# Altium footprint library Safety_Lock.PcbLib: 46 footprints (part 2 of 3)
Each footprint in its own frame and in the unit in brackets; x right, y up, seen from the top. Pads: shape width x height; smd on the part's side, far side on the other; paste and mask are expansions set on the pad; w line width, h text height; cw(c..) or ccw(c..) is an arc to the next point about the centre after c.
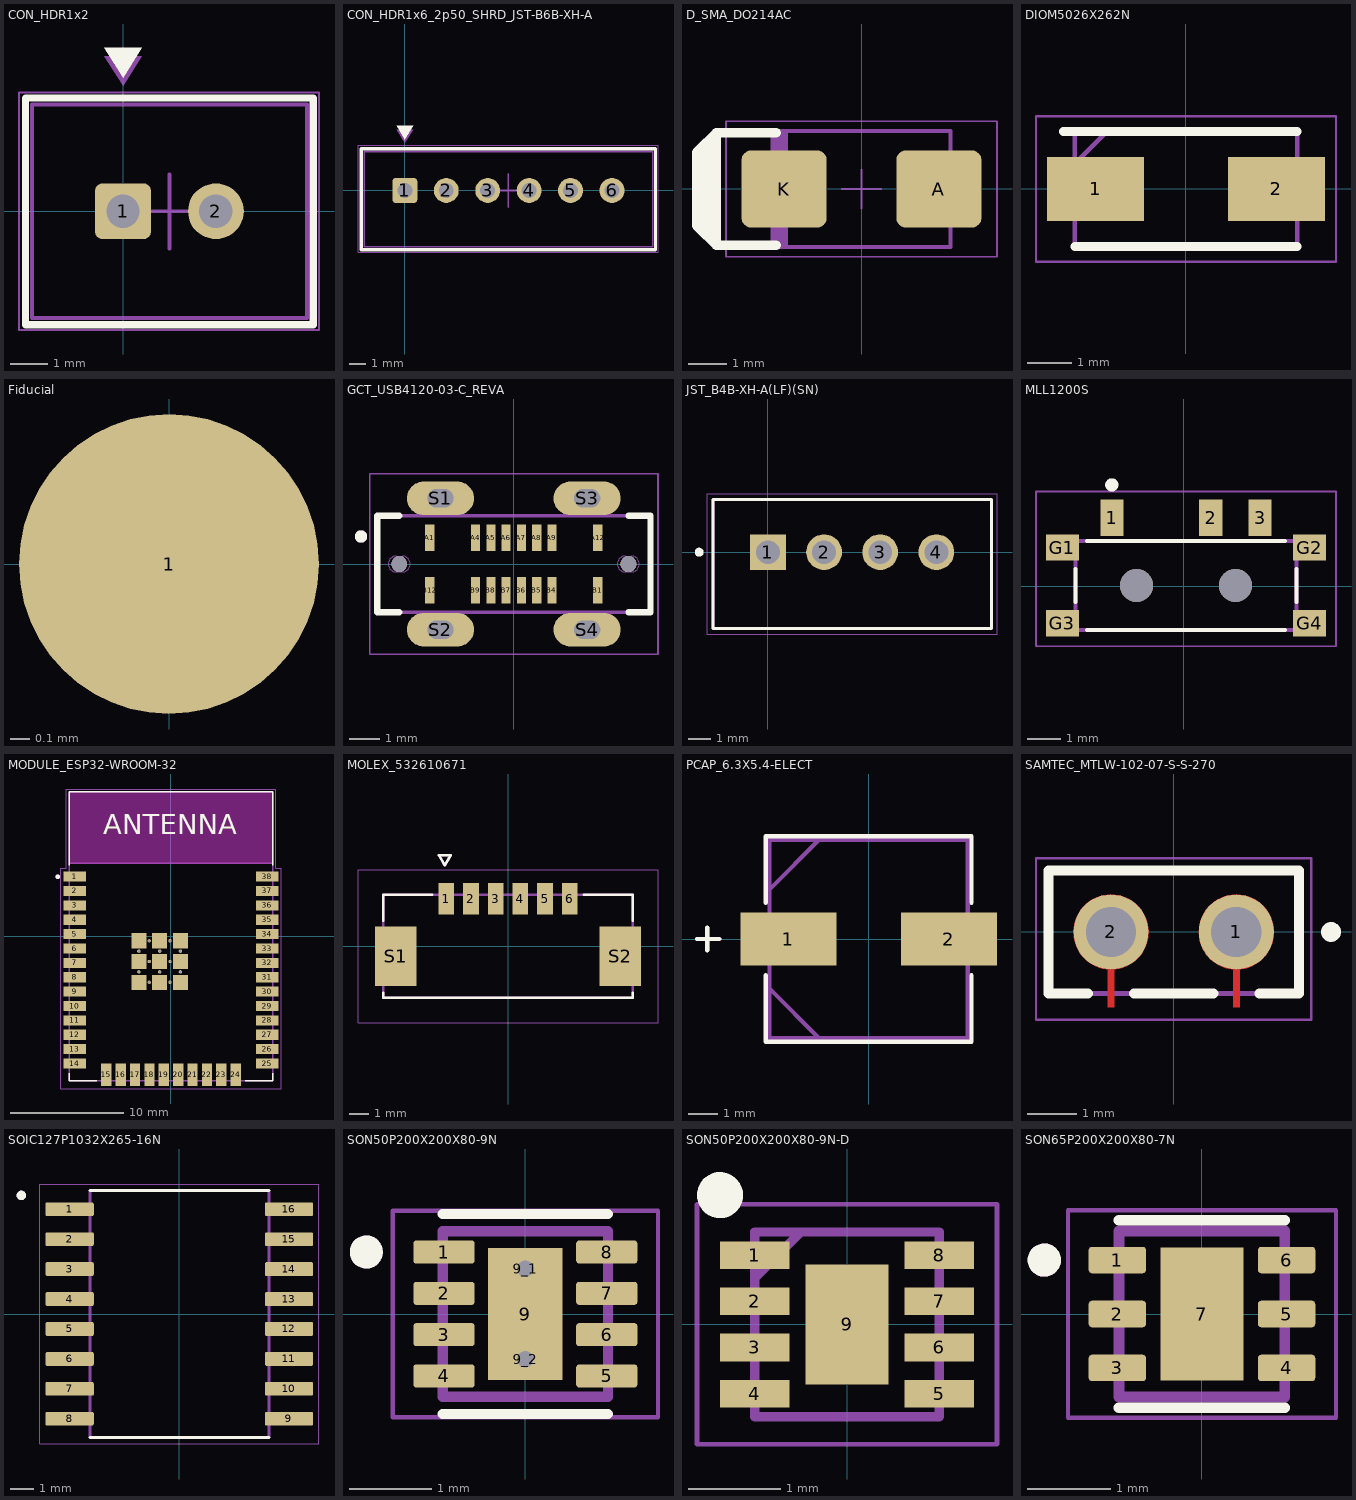
[diagram p1: the footprints below, top view; thin cyan lines are the x and y axes]

## CON_HDR1x2 [mm] "Connector 2-Way 2.50mm Pitch Right Angle Shrouded JST S2B-XH-A"
height 7
pads (2):
  rrect25% 1.5x1.5 / inner round 1.5 / far side rrect25% 1.5x1.5 hole 0.9: 1(0,0)
  round 1.5 hole 0.9: 2(2.5,0)
Top Overlay:
  region: 0,3.6 0.5,4.4 -0.5,4.4
  lines w0.2: -2.625,-3.05 5.125,-3.05 5.125,3.05 -2.625,3.05 -2.625,-3.05
Top Courtyard:
  lines w0.05: -2.8,-3.2 5.275,-3.2 5.275,3.2 -2.8,3.2 -2.8,-3.2
  lines w0.1: 0.25,0 1.25,0 ; 1.25,-1 1.25,0 ; 1.25,1 1.25,0 ; 2.25,0 1.25,0
Top Assembly:
  region: 0,3.375 0.5,4.175 -0.5,4.175
  lines w0.1: -2.45,-2.2 -2.45,2.875 4.95,2.875 4.95,-2.875 -2.45,-2.875 -2.45,0.4
3D body "User Library-JST B2B-XH-A.STEP": height 7, standoff -3.4, extent -2.45,-2.875 4.95,2.875

## CON_HDR1x6_2p50_SHRD_JST-B6B-XH-A [mm] "Connector 6-Way 2.50mm Pitch Right Angle Shrouded JST-B6B-XH-A"
height 7
pads (6):
  rrect25% 1.5x1.5 / inner round 1.5 / far side rrect25% 1.5x1.5 hole 0.9: 1(0,0)
  round 1.5 hole 0.9: 2(2.5,0) 3(5,0) 4(7.5,0) 5(10,0) 6(12.5,0)
Top Overlay:
  region: 0,3.1 0.5,3.9 -0.5,3.9
  lines w0.2: -2.625,-3.575 15.125,-3.575 15.125,2.525 -2.625,2.525 -2.625,-3.575
Top Courtyard:
  lines w0.05: -2.825,-3.725 15.275,-3.725 15.275,2.725 -2.825,2.725 -2.825,-3.725
  lines w0.1: 5.25,0 6.25,0 ; 6.25,-1 6.25,0 ; 6.25,1 6.25,0 ; 7.25,0 6.25,0
Top Assembly:
  region: 0,2.875 0.5,3.675 -0.5,3.675
  lines w0.1: -2.45,-2.2 -2.45,2.35 14.951,2.35 14.951,-3.4 -2.45,-3.4 -2.45,0.4
3D body "B6B-XH-A.STEP": height 7, standoff -3.4, extent -2.45,-3.375 14.95,2.375

## D_SMA_DO214AC [mm] "Molded Diode, 2-Leads, Body 4.3x2.6mm, IPC Medium Density"
height 2.2
pads (2):
  rrect25% 2.2x2 smd: A(2,0) K(-2,0)
Top Overlay:
  lines w0.25: -4,-1.2 -4,1.2 ; -2.2,-1.45 -3.75,-1.45 ; -2.2,1.45 -3.75,1.45 ; -3.75,-1.45 -4.25,-0.95 -4.25,0.95 -3.75,1.45 ; -3.75,-1.45 -3.75,1.45
Top Courtyard:
  lines w0.05: -0.5,0 0.5,0 ; 0,-0.5 0,0.5 ; -3.5,-1.75 3.5,-1.75 3.5,1.75 -3.5,1.75 -3.5,-1.75
Top Assembly:
  region: -1.9,1.5 -2.3,1.5 -2.3,-1.5 -1.9,-1.5
  lines w0.1: -2.3,-1.5 -2.3,1.5 2.3,1.5 2.3,-1.5 -2.3,-1.5
3D body "D_SMA_DO214AC.step": height 2.6, standoff 0.03, extent -2.75,-1.4 2.75,1.4

## DIOM5026X262N [mm]
pads (2):
  rect 2.2x1.45 smd: 1(-2.05,0) 2(2.05,0)
Top Overlay:
  lines w0.2: -2.775,1.3 2.52,1.3 ; -2.52,-1.3 2.52,-1.3
Mechanical 13:
  lines w0.1: -2.52,0.575 -1.795,1.3 ; -2.52,-1.3 -2.52,1.3 2.52,1.3 2.52,-1.3 -2.52,-1.3
Mechanical 15:
  lines w0.05: -3.4,-1.65 -3.4,1.65 3.4,1.65 3.4,-1.65 -3.4,-1.65
3D body "SS54.stp": height 2.62, standoff 0, extent -2.52,-1.3 2.52,1.3

## Fiducial [mm]
pads (1):
  round 1.53 all layers, no hole mask+0.102: 1(0,0)

## GCT_USB4120-03-C_REVA [mm]
pads (22):
  rect 0.3x0.87 smd: A1(-2.75,0.865) A4(-1.25,0.865) A5(-0.75,0.865) A6(-0.25,0.865) A7(0.25,0.865) A8(0.75,0.865) A9(1.25,0.865) A12(2.75,0.865) B1(2.75,-0.865) B4(1.25,-0.865) B5(0.75,-0.865) B6(0.25,-0.865) B7(-0.25,-0.865) B8(-0.75,-0.865) B9(-1.25,-0.865) B12(-2.75,-0.865)
  oval 2.2x1.1 hole 0.6 slot 0.85 at 0 deg: S1(-2.4,2.15) S2(-2.4,-2.15) S3(2.4,2.15) S4(2.4,-2.15)
  round 0.52 hole 0.52 unplated: ""(-3.75,0) ""(3.75,0)
Top Overlay:
  circle w0.2: c-5,0.9 r0.1
  lines w0.2: -3.75,-1.58 -4.47,-1.58 -4.47,1.58 -3.75,1.58 ; 3.75,-1.58 4.47,-1.58 4.47,1.58 3.75,1.58
Mechanical 1:
  lines w0: -4.11,0 cw(c-3.85,0) -3.85,0.26 -3.65,0.26 cw(c-3.65,0) -3.39,0 cw(c-3.65,0) -3.65,-0.26 -3.85,-0.26 cw(c-3.85,0) -4.11,0 ; 3.39,0 cw(c3.65,0) 3.65,0.26 3.85,0.26 cw(c3.85,0) 4.11,0 cw(c3.85,0) 3.85,-0.26 3.65,-0.26 cw(c3.65,0) 3.39,0
Mechanical 13:
  circle w0.2: c-5,0.9 r0.1
  lines w0.1: -4.47,-1.58 -4.47,1.58 4.47,1.58 4.47,-1.58 -4.47,-1.58
Mechanical 15:
  lines w0.05: -4.72,-2.95 -4.72,2.95 4.72,2.95 4.72,-2.95 -4.72,-2.95
3D body "USB4120-03-C--3DModel-STEP-56544.STEP": height 6.5, standoff -0.95, extent -4.495,-2.286 4.445,2.314

## JST_B4B-XH-A(LF)(SN) [mm]
pads (4):
  rect 1.59x1.59 hole 1.06: 1(0,0)
  round 1.59 hole 1.06: 2(2.5,0) 3(5,0) 4(7.5,0)
Top Overlay:
  circle w0.2: c-3.06,0 r0.1
  lines w0.127: -2.45,-3.4 9.95,-3.4 9.95,2.35 -2.45,2.35 -2.45,-3.4
Mechanical 13:
  lines w0.127: -2.45,-3.4 9.95,-3.4 9.95,2.35 -2.45,2.35 -2.45,-3.4
Mechanical 15:
  lines w0.05: -2.7,-3.65 10.2,-3.65 10.2,2.6 -2.7,2.6 -2.7,-3.65
3D body "step_temp.STEP": height 7, standoff -3.4, extent -2.45,-3.4 9.95,2.35

## MLL1200S [mm]
pads (9):
  rect 0.7x1.1 smd: 1(-2.175,2.075) 2(0.825,2.075) 3(2.325,2.075)
  rect 1x0.8 smd: G1(-3.675,1.175) G2(3.825,1.175) G3(-3.675,-1.125) G4(3.825,-1.125)
  round 1 hole 1 unplated: ""(-1.425,0.025) ""(1.575,0.025)
Top Overlay:
  circle w0.2: c-2.175,3.075 r0.1
  lines w0.127: -3.275,-0.475 -3.275,0.525 ; -2.925,-1.325 3.075,-1.325 ; -2.925,1.375 3.075,1.375 ; 3.425,-0.475 3.425,0.525
Top Courtyard:
  lines w0.05: -4.475,-1.825 -4.475,2.875 4.625,2.875 4.625,-1.825 0.325,-1.825 -1.675,-1.825 -4.475,-1.825
Top Assembly:
  lines w0.127: -3.275,-1.325 3.425,-1.325 3.425,1.375 -3.275,1.375 -3.275,-1.325
3D body "MLL1200S--3DModel-STEP-56544.STEP": height 1.5, standoff -0.6, extent -3.775,-2.825 3.925,2.275

## MODULE_ESP32-WROOM-32 [mm]
pads (59):
  rect 2x0.9 smd: 1(-8.5,5.26) 2(-8.5,3.99) 3(-8.5,2.72) 4(-8.5,1.45) 5(-8.5,0.18) 6(-8.5,-1.09) 7(-8.5,-2.36) 8(-8.5,-3.63) 9(-8.5,-4.9) 10(-8.5,-6.17) 11(-8.5,-7.44) 12(-8.5,-8.71) 13(-8.5,-9.98) 14(-8.5,-11.25) 25(8.5,-11.25) 26(8.5,-9.98) 27(8.5,-8.71) 28(8.5,-7.44) 29(8.5,-6.17) 30(8.5,-4.9) 31(8.5,-3.63) 32(8.5,-2.36) 33(8.5,-1.09) 34(8.5,0.18) 35(8.5,1.45) 36(8.5,2.72) 37(8.5,3.99) 38(8.5,5.26)
  rect 0.9x2 smd: 15(-5.715,-12.25) 16(-4.445,-12.25) 17(-3.175,-12.25) 18(-1.905,-12.25) 19(-0.635,-12.25) 20(0.635,-12.25) 21(1.905,-12.25) 22(3.175,-12.25) 23(4.445,-12.25) 24(5.715,-12.25)
  rect 1.33x1.33 smd: 39_1(-2.835,-0.405) 39_2(-1,-0.405) 39_3(0.835,-0.405) 39_4(-2.835,-2.24) 39_5(-1,-2.24) 39_6(0.835,-2.24) 39_7(-2.835,-4.075) 39_8(-1,-4.075) 39_9(0.835,-4.075)
  round 0.3 hole 0.2: 39_10(-1.917,-0.405) 39_11(-0.082,-0.405) 39_12(-2.835,-1.322) 39_13(-1,-1.322) 39_14(0.835,-1.322) 39_15(-1.917,-2.24) 39_16(-0.082,-2.24) 39_17(-2.835,-3.157) 39_18(-1,-3.157) 39_19(0.835,-3.157) 39_20(-1.917,-4.075) 39_21(-0.082,-4.075)
Top Overlay:
  circle w0.2: c-10,5.25 r0.1
  lines w0.127: -9,-12.1 -9,-12.75 -6.55,-12.75 ; -9,6.25 -9,12.75 9,12.75 9,6.25 ; 6.55,-12.75 9,-12.75 9,-12.1
  text "ANTENNA" at -6,9 h1.78
Keep-Out Layer:
  region: 9,6.45 -9,6.45 -9,12.75 9,12.75
  region: 9,6.45 -9,6.45 -9,12.75 9,12.75
Mechanical 13:
  circle w0.2: c-10,5.25 r0.1
  lines w0.127: -9,6.45 -9,-12.75 9,-12.75 9,6.45 ; -9,6.45 -9,12.75 9,12.75 9,6.45 ; -9,6.45 9,6.45
Mechanical 15:
  lines w0.05: -9.75,-13.5 9.75,-13.5 9.75,6 9.25,6 9.25,13 -9.25,13 -9.25,6 -9.75,6 -9.75,-13.5
3D body "ESP32-WROOM-32--3DModel-STEP-1.STEP": height 3.2, standoff 0, extent -9,-12.75 9,12.75

## MOLEX_532610671 [mm]
pads (8):
  rect 0.8x1.6 smd mask+0: 1(-3.125,2.4) 2(-1.875,2.4) 3(-0.625,2.4) 4(0.625,2.4) 5(1.875,2.4) 6(3.125,2.4)
  rect 2.1x3 smd mask+0: S1(-5.675,-0.5) S2(5.675,-0.5)
Top Overlay:
  lines w0.127: -6.325,-2.35 -6.325,-2.6 6.325,-2.6 6.325,-2.35 ; -6.325,1.3 -6.325,2.6 -3.845,2.6 ; 3.845,2.6 6.325,2.6 6.325,1.3 ; -3.5,4.605 -3.2,4.105 -2.9,4.605 -3.5,4.605
Top Solder:
  region: 3.601,1.524 2.649,1.524 2.649,3.276 3.601,3.276
  region: 2.351,1.524 1.399,1.524 1.399,3.276 2.351,3.276
  region: 1.101,1.524 0.149,1.524 0.149,3.276 1.101,3.276
  region: -0.149,1.524 -1.101,1.524 -1.101,3.276 -0.149,3.276
  region: -1.399,1.524 -2.351,1.524 -2.351,3.276 -1.399,3.276
  region: -4.549,-2.076 -6.801,-2.076 -6.801,1.076 -4.549,1.076
  region: 6.801,-2.076 4.549,-2.076 4.549,1.076 6.801,1.076
  region: -2.649,1.524 -3.601,1.524 -3.601,3.276 -2.649,3.276
Mechanical 13:
  lines w0.127: -6.325,-2.6 -6.325,2.6 6.325,2.6 6.325,-2.6 -6.325,-2.6 ; -3.5,4.605 -3.2,4.105 -2.9,4.605 -3.5,4.605
Mechanical 15:
  lines w0.05: -7.595,-3.87 -7.595,3.87 7.595,3.87 7.595,-3.87 -7.595,-3.87
3D body "step_temp.STEP": height 3.4, standoff 0, extent -6.3,-2.22 6.35,2.98

## PCAP_6.3X5.4-ELECT [mil]
pads (2):
  rect 130x71 smd: 1(-108.5,0) 2(108.5,0)
Top Overlay:
  lines w6: -232,0 -202,0 ; -218,-15 -218,15 ; -139,-49 -139,-139 139,-139 139,-49 ; -139,49 -139,139 139,139 139,49
Mechanical 13:
  lines w6: -232,0 -202,0 ; -218,-15 -218,15 ; -134,-67 -67,-134 ; -134,67 -67,134 ; -134,-134 -134,134 134,134 134,-134 -134,-134
3D body "UWX1C101MCL1GB--3DModel-STEP-56544.STEP": height 216.54, standoff 0, extent -139.29,-129.91 136.3,129.93

## SAMTEC_MTLW-102-07-S-S-270 [mm]
pads (2):
  round 1.52 hole 1.02: 1(1.27,0) 2(-1.27,0)
Top Layer:
  region: -1.191,0.756 -1.112,0.743 -1.035,0.723 -0.961,0.694 -0.89,0.658 -0.823,0.615 -0.761,0.565 -0.705,0.509 -0.655,0.447 -0.612,0.38 -0.576,0.309 -0.547,0.235 -0.527,0.158 -0.514,0.079 -0.51,0 -0.511,-0.038 -0.514,-0.076 -0.518,-0.113 -0.525,-0.151 -0.533,-0.187 -0.543,-0.224 -0.555,-0.259 -0.569,-0.294 -0.584,-0.329 -0.601,-0.363 -0.62,-0.395 -0.64,-0.427 -0.662,-0.458 -0.685,-0.487 -0.71,-0.516 -0.736,-0.543 -0.764,-0.569 -0.793,-0.593 -0.822,-0.616 -0.853,-0.638 -0.885,-0.658 -0.918,-0.676 -0.952,-0.692 -0.987,-0.707 -1.022,-0.721 -1.058,-0.732 -1.094,-0.742 -1.131,-0.75 -1.168,-0.756 -1.205,-0.76 -1.205,-1.53 -1.335,-1.53 -1.335,-0.76 -1.372,-0.756 -1.409,-0.75 -1.446,-0.742 -1.482,-0.732 -1.518,-0.721 -1.553,-0.707 -1.588,-0.692 -1.622,-0.676 -1.655,-0.658 -1.687,-0.638 -1.718,-0.616 -1.747,-0.593 -1.776,-0.569 -1.804,-0.543 -1.83,-0.516 -1.855,-0.487 -1.878,-0.458 -1.9,-0.427 -1.92,-0.395 -1.939,-0.363 -1.956,-0.329 -1.971,-0.294 -1.985,-0.259 -1.997,-0.224 -2.007,-0.187 -2.015,-0.151 -2.022,-0.113 -2.026,-0.076 -2.029,-0.038 -2.03,0 -2.026,0.079 -2.013,0.158 -1.993,0.235 -1.964,0.309 -1.928,0.38 -1.885,0.447 -1.835,0.509 -1.779,0.565 -1.717,0.615 -1.65,0.658 -1.579,0.694 -1.505,0.723 -1.428,0.743 -1.349,0.756 -1.27,0.76
  region: 1.349,0.756 1.428,0.743 1.505,0.723 1.579,0.694 1.65,0.658 1.717,0.615 1.779,0.565 1.835,0.509 1.885,0.447 1.928,0.38 1.964,0.309 1.993,0.235 2.013,0.158 2.026,0.079 2.03,0 2.029,-0.038 2.026,-0.076 2.022,-0.113 2.015,-0.151 2.007,-0.187 1.997,-0.224 1.985,-0.259 1.971,-0.294 1.956,-0.329 1.939,-0.363 1.92,-0.395 1.9,-0.427 1.878,-0.458 1.855,-0.487 1.83,-0.516 1.804,-0.543 1.776,-0.569 1.747,-0.593 1.718,-0.616 1.687,-0.638 1.655,-0.658 1.622,-0.676 1.588,-0.692 1.553,-0.707 1.518,-0.721 1.482,-0.732 1.446,-0.742 1.409,-0.75 1.372,-0.756 1.335,-0.76 1.335,-1.53 1.205,-1.53 1.205,-0.76 1.168,-0.756 1.131,-0.75 1.094,-0.742 1.058,-0.732 1.022,-0.721 0.987,-0.707 0.952,-0.692 0.918,-0.676 0.885,-0.658 0.853,-0.638 0.822,-0.616 0.793,-0.593 0.764,-0.569 0.736,-0.543 0.71,-0.516 0.685,-0.487 0.662,-0.458 0.64,-0.427 0.62,-0.395 0.601,-0.363 0.584,-0.329 0.569,-0.294 0.555,-0.259 0.543,-0.224 0.533,-0.187 0.525,-0.151 0.518,-0.113 0.514,-0.076 0.511,-0.038 0.51,0 0.514,0.079 0.527,0.158 0.547,0.235 0.576,0.309 0.612,0.38 0.655,0.447 0.705,0.509 0.761,0.565 0.823,0.615 0.89,0.658 0.961,0.694 1.035,0.723 1.112,0.743 1.191,0.756 1.27,0.76
Top Overlay:
  circle w0.2: c3.19,0 r0.1
  lines w0.2: -1.735,-1.245 -2.54,-1.245 -2.54,1.245 2.54,1.245 2.54,-1.245 1.735,-1.245 ; -0.805,-1.245 0.805,-1.245
Top Paste:
  region: -0.19,-0.455 -0.65,-0.455 -1.015,-0.77 -1.015,-1.53 -1.525,-1.53 -1.525,-0.77 -1.89,-0.455 -2.35,-0.455 -2.35,1.085 -0.19,1.085
  region: 2.35,-0.455 1.89,-0.455 1.525,-0.77 1.525,-1.53 1.015,-1.53 1.015,-0.77 0.65,-0.455 0.19,-0.455 0.19,1.085 2.35,1.085
Top Solder:
  drawing of 2 lines, arcs and shapes, not listed
Mechanical 13:
  circle w0.2: c3.19,0 r0.1
  lines w0.1: -2.54,-1.245 2.54,-1.245 2.54,1.245 -2.54,1.245 -2.54,-1.245
Mechanical 15:
  lines w0.05: -2.79,-1.78 2.79,-1.78 2.79,1.495 -2.79,1.495 -2.79,-1.78
3D body "MTLW-102-07-S-S-270.stp": height 8.38, standoff -2.54, extent -2.54,-1.244 2.54,1.245

## SOIC127P1032X265-16N [mm]
pads (16):
  rrect25% 2.05x0.59 smd: 1(-4.655,4.445) 2(-4.655,3.175) 3(-4.655,1.905) 4(-4.655,0.635) 5(-4.655,-0.635) 6(-4.655,-1.905) 7(-4.655,-3.175) 8(-4.655,-4.445) 9(4.655,-4.445) 10(4.655,-3.175) 11(4.655,-1.905) 12(4.655,-0.635) 13(4.655,0.635) 14(4.655,1.905) 15(4.655,3.175) 16(4.655,4.445)
Top Overlay:
  circle w0.2: c-6.705,5.035 r0.1
  lines w0.127: -3.8,-5.25 3.8,-5.25 ; -3.8,5.25 3.8,5.25
Mechanical 13:
  circle w0.2: c-6.705,5.035 r0.1
  lines w0.127: -3.8,-5.25 3.8,-5.25 3.8,5.25 -3.8,5.25 -3.8,-5.25
Mechanical 15:
  lines w0.05: -5.93,-5.5 5.93,-5.5 5.93,5.5 -5.93,5.5 -5.93,-5.5
3D body "DS3231M+TRL.STEP": height 2.65, standoff 0, extent -5.151,-5.19 5.174,5.11

## SON50P200X200X80-9N [mm]
pads (11):
  rrect25% 0.74x0.28 smd: 1(-0.985,0.75) 2(-0.985,0.25) 3(-0.985,-0.25) 4(-0.985,-0.75) 5(0.985,-0.75) 6(0.985,-0.25) 7(0.985,0.25) 8(0.985,0.75)
  rect 0.9x1.6 smd paste-2: 9(0,0)
  round 0.4 hole 0.2 mask+0: 9_1(0,0.55) 9_2(0,-0.55)
Top Overlay:
  circle w0.2: c-1.925,0.75 r0.1
  lines w0.127: -1,-1.21 1,-1.21 ; -1,1.21 1,1.21
Top Paste:
  region: 0.28,-0.51 -0.28,-0.51 -0.28,0.51 0.28,0.51
Mechanical 13:
  circle w0.2: c-1.925,0.75 r0.1
  lines w0.127: -1,-1 -1,1 1,1 1,-1 -1,-1
Mechanical 15:
  lines w0.05: -1.605,-1.25 -1.605,1.25 1.605,1.25 1.605,-1.25 -1.605,-1.25
3D body "DRV8837CDSGR.STEP": height 0.8, standoff 0, extent -1,-1 1,1

## SON50P200X200X80-9N-D [mm]
pads (9):
  rect 0.75x0.3 smd: 1(-1,0.75) 2(-1,0.25) 3(-1,-0.25) 4(-1,-0.75) 5(1,-0.75) 6(1,-0.25) 7(1,0.25) 8(1,0.75)
  rect 0.9x1.3 smd: 9(0,0)
Top Overlay:
  circle w0.25: c-1.375,1.4 r0.125
Mechanical 13:
  lines w0.1: -1,0.5 -0.5,1 ; -1,-1 -1,1 1,1 1,-1 -1,-1
Mechanical 15:
  lines w0.05: -1.625,-1.3 -1.625,1.3 1.625,1.3 1.625,-1.3 -1.625,-1.3
3D body "MAX17048G+T10.stp": height 0.8, standoff 0, extent -1.05,-1 1.05,1

## SON65P200X200X80-7N [mm]
pads (7):
  rrect25% 0.69x0.32 smd: 1(-1.02,0.65) 2(-1.02,0) 3(-1.02,-0.65) 4(1.02,-0.65) 5(1.02,0) 6(1.02,0.65)
  rect 1x1.6 smd paste-2: 7(0,0)
Top Overlay:
  circle w0.2: c-1.9,0.65 r0.1
  lines w0.127: -1,-1.13 1,-1.13 ; -1,1.13 1,1.13
Top Paste:
  region: 0.316,-0.506 -0.316,-0.506 -0.316,0.506 0.316,0.506
Mechanical 13:
  circle w0.2: c-1.9,0.65 r0.1
  lines w0.127: -1,-1 -1,1 1,1 1,-1 -1,-1
Mechanical 15:
  lines w0.05: -1.615,-1.25 -1.615,1.25 1.615,1.25 1.615,-1.25 -1.615,-1.25
3D body "LP5912-3.3DRVR.STEP": height 0.8, standoff 0, extent -1.007,-1 0.993,1